# Altium schematic symbol library m-BLANC.SchLib: 48 symbols (part 1 of 2)
Pins are listed as number, name and electrical type; pins without a type are passive.

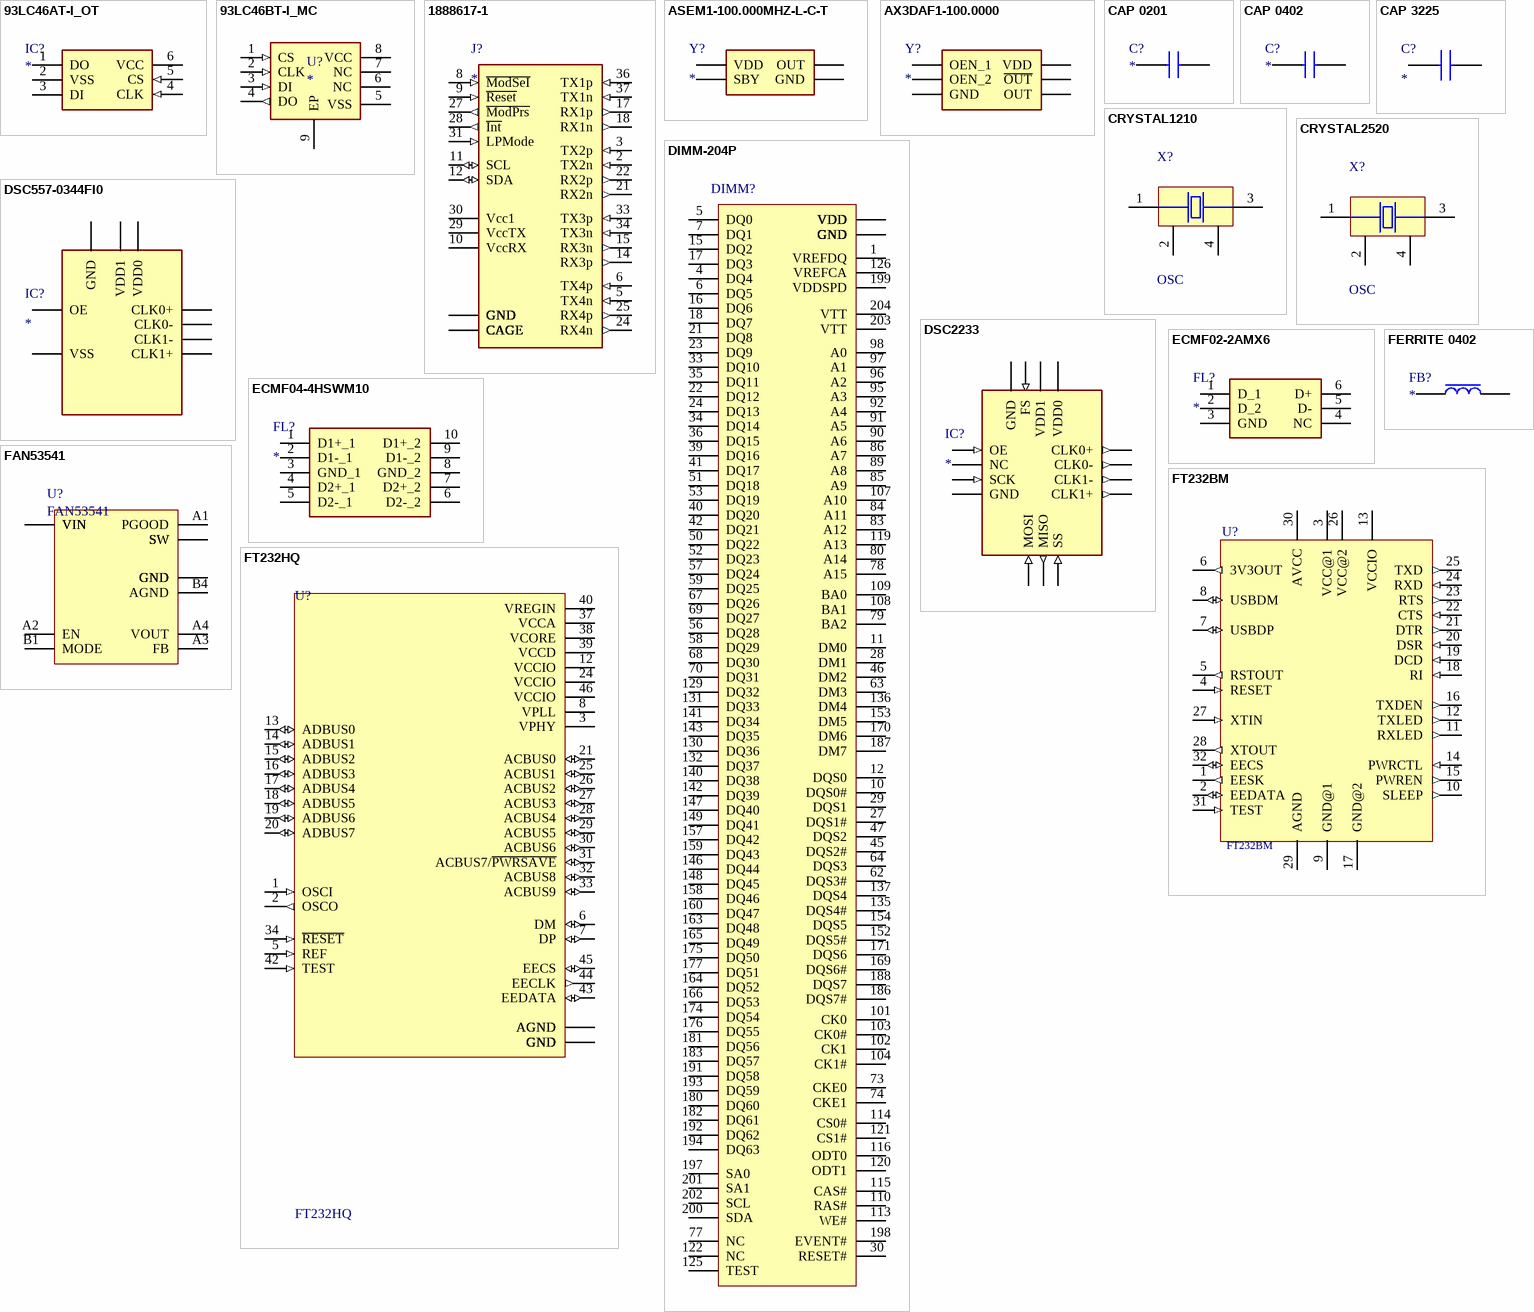
[diagram p0: symbols 93LC46AT-I_OT to FT232HQ]

## 93LC46AT-I_OT
designator IC?
Integrated Circuit; Manufacturer_Name: Microchip; Manufacturer_Part_Number: 93LC46AT-I/OT; Allied_Number: 70046004; Datasheet Link: http://ww1.microchip.com/downloads/en/DeviceDoc/20001749K.pdf; Height: 1.45mm; Mouser Part Number: 579-93LC46AT-I/OT; Mouser Price/Stock: https://www.mouser.com/Search/Refine.aspx?Keyword=579-93LC46AT-I%2FOT; RS Part Number: 6878862; RS Price/Stock: https://uk.rs-online.com/web/p/products/6878862; Allied Price/Stock: http://www.alliedelec.com/microchip-technology-inc-93lc46at-i-ot/70046004/
footprint SOT95P270X145-6N
pins: 1 DO, 2 VSS (power), 3 DI, 4 CLK (in), 5 CS (in), 6 VCC (power)

## 93LC46BT-I_MC
designator U?
footprint *SON50P200X300X100-9N
pins: 1 CS (in), 2 CLK (in), 3 DI (in), 4 DO (out), 5 VSS (power), 6 NC, 7 NC, 8 VCC (power), 9 EP (power)

## 1888617-1
designator J?
Connector; Manufacturer_Name: TE Connectivity; Manufacturer_Part_Number: 1888617-1; Datasheet Link: https://www.mouser.com/datasheet/2/418/NG_CS_1773408-1_Pluggable_IXO_Solutions_-_QSFP_061-1244175.pdf; Height: 9.7mm; Arrow Part Number: 1888617-1; Arrow Price/Stock: https://www.arrow.com/en/products/1888617-1/te-connectivity; Mouser Part Number: 571-1888617-1; Mouser Price/Stock: https://www.mouser.com/Search/Refine.aspx?Keyword=571-1888617-1
footprint 18886171
pins: 1 GND (power), 2 TX2n (in), 3 TX2p (in), 4 GND (power), 5 TX4n (in), 6 TX4p (in), 7 GND (power), 8 ~{ModSeI} (in), 9 ~{Reset} (in), 10 VccRX (power), 11 SCL (io), 12 SDA (io), 13 GND (power), 14 RX3p (out), 15 RX3n (out), 16 GND (power), 17 RX1p (out), 18 RX1n (out), 19 GND (power), 20 GND (power), 21 RX2n (out), 22 RX2p (out), 23 GND (power), 24 RX4n (out), 25 RX4p (out), 26 GND (power), 27 ~{ModPrs} (out), 28 ~{Int} (out), 29 VccTX (power), 30 Vcc1 (power), 31 LPMode (in), 32 GND (power), 33 TX3p (in), 34 TX3n (in), 35 GND (power), 36 TX1p (in), 37 TX1n (in), 38 GND (power), MH1 CAGE, MH2 CAGE, MH3 CAGE, MH4 CAGE, MH5 CAGE, MH6 CAGE, MH7 CAGE, MH8 CAGE, MH9 CAGE, MH10 CAGE, MH11 CAGE, MH12 CAGE, MH13 CAGE, MH14 CAGE

## ASEM1-100.000MHZ-L-C-T
designator Y?
Crystal or Oscillator; Manufacturer_Name: ABRACON; Manufacturer_Part_Number: ASEM1-100.000MHZ-L-C-T; Datasheet Link: https://eu.mouser.com/datasheet/2/3/ASEM-44258.pdf; Height: 0.9mm; Mouser Part Number: 815-ASEM1-100.0-LCT; Mouser Price/Stock: https://www.mouser.co.uk/ProductDetail/ABRACON/ASEM1-100000MHZ-L-C-T?qs=DmEoDMSjLQrIUu25gcXRZw%3D%3D
footprint ASEM1100000MHZLCT
pins: 1 SBY, 2 GND, 3 OUT, 4 VDD

## AX3DAF1-100.0000
designator Y?
Crystal or Oscillator; Manufacturer_Name: ABRACON; Manufacturer_Part_Number: AX3DAF1-100.0000; Datasheet Link: https://abracon.com/datasheets/AX3.pdf; Height: 1.1mm; Mouser Part Number: 815-AX3DAF1-100.0000; Mouser Price/Stock: https://www.mouser.com/Search/Refine.aspx?Keyword=815-AX3DAF1-100.0000; Arrow Part Number: AX3DAF1-100.0000; Arrow Price/Stock: https://www.arrow.com/en/products/ax3daf1-100.0000/abracon
footprint AX3DAF11000000
pins: 1 OEN_1, 2 OEN_2, 3 GND, 4 OUT, 5 ~{OUT}, 6 VDD

## CAP 0201
designator C?
Capacitor
footprint SMD0201
pins: 1, 2

## CAP 0402
designator C?
Capacitor
footprint SMD0402
pins: 1, 2

## CAP 3225
designator C?
Capacitor; Manufacturer_Name: TAIYO YUDEN; Manufacturer_Part_Number: JMK325ABJ107MM-P; Datasheet Link: https://ms.componentsearchengine.com/Datasheets/1/JMK325ABJ107MM-P.pdf; Height: 2.8mm; Arrow Part Number: JMK325ABJ107MM-P; Arrow Price/Stock: https://www.arrow.com/en/products/jmk325abj107mm-p/taiyo-yuden; Mouser Part Number: 963-JMK325ABJ107MM-P; Mouser Price/Stock: https://www.mouser.co.uk/ProductDetail/Taiyo-Yuden/JMK325ABJ107MM-P?qs=EPmvyOv1YlN%2FKJt%252BEENTYA%3D%3D
footprint CAPC3225X280N
pins: 1, 2

## CRYSTAL1210
designator X?, comment OSC
Crystal 1.2mm x 1.0mm
footprint CRYSTAL1210
pins: 1 X1, 2 GND, 3 X2, 4 GND

## CRYSTAL2520
designator X?, comment OSC
Crystal 2.5mm x 2.0mm
footprint CRYSTAL2520
pins: 1 X1, 2 GND, 3 X2, 4 GND

## DIMM-204P
designator DIMM?, comment DDR3  (value not drawn)
Kyocera 296409204003856+
footprint 296409204003856
pins: 1 VREFDQ, 2 GND, 3 GND, 4 DQ4, 5 DQ0, 6 DQ5, 7 DQ1, 8 GND, 9 GND, 10 DQS0#, 11 DM0, 12 DQS0, 13 GND, 14 GND, 15 DQ2, 16 DQ6, 17 DQ3, 18 DQ7, 19 GND, 20 GND, 21 DQ8, 22 DQ12, 23 DQ9, 24 DQ13, 25 GND, 26 GND, 27 DQS1#, 28 DM1, 29 DQS1, 30 RESET#, 31 GND, 32 GND, 33 DQ10, 34 DQ14, 35 DQ11, 36 DQ15, 37 GND, 38 GND, 39 DQ16, 40 DQ20, 41 DQ17, 42 DQ21, 43 GND, 44 GND, 45 DQS2#, 46 DM2, 47 DQS2, 48 GND, 49 GND, 50 DQ22, 51 DQ18, 52 DQ23, 53 DQ19, 54 GND, 55 GND, 56 DQ28, 57 DQ24, 58 DQ29, 59 DQ25, 60 GND, 61 GND, 62 DQS3#, 63 DM3, 64 DQS3, 65 GND, 66 GND, 67 DQ26, 68 DQ30, 69 DQ27, 70 DQ31, 71 GND, 72 GND, 73 CKE0, 74 CKE1, 75 VDD, 76 VDD, 77 NC, 78 A15, 79 BA2, 80 A14, 81 VDD, 82 VDD, 83 A12, 84 A11, 85 A9, 86 A7, 87 VDD, 88 VDD, 89 A8, 90 A6, 91 A5, 92 A4, 93 VDD, 94 VDD, 95 A3, 96 A2, 97 A1, 98 A0, 99 VDD, 100 VDD, 101 CK0, 102 CK1, 103 CK0#, 104 CK1#, 105 VDD, 106 VDD, 107 A10, 108 BA1, 109 BA0, 110 RAS#, 111 VDD, 112 VDD, 113 WE#, 114 CS0#, 115 CAS#, 116 ODT0, 117 VDD, 118 VDD, 119 A13, 120 ODT1, 121 CS1#, 122 NC, 123 VDD, 124 VDD, 125 TEST, 126 VREFCA, 127 GND, 128 GND, 129 DQ32, 130 DQ36, 131 DQ33, 132 DQ37, 133 GND, 134 GND, 135 DQS4#, 136 DM4, 137 DQS4, 138 GND, 139 GND, 140 DQ38, 141 DQ34, 142 DQ39, 143 DQ35, 144 GND, 145 GND, 146 DQ44, 147 DQ40, 148 DQ45, 149 DQ41, 150 GND, 151 GND, 152 DQS5#, 153 DM5, 154 DQS5, 155 GND, 156 GND, 157 DQ42, 158 DQ46, 159 DQ43, 160 DQ47, 161 GND, 162 GND, 163 DQ48, 164 DQ52, 165 DQ49, 166 DQ53, 167 GND, 168 GND, 169 DQS6#, 170 DM6, 171 DQS6, 172 GND, 173 GND, 174 DQ54, 175 DQ50, 176 DQ55, 177 DQ51, 178 GND, 179 GND, 180 DQ60, 181 DQ56, 182 DQ61, 183 DQ57, 184 GND, 185 GND, 186 DQS7#, 187 DM7, 188 DQS7, 189 GND, 190 GND, 191 DQ58, 192 DQ62, 193 DQ59, 194 DQ63, 195 GND, 196 GND, 197 SA0, 198 EVENT#, 199 VDDSPD, 200 SDA, 201 SA1, 202 SCL, 203 VTT, 204 VTT

## DSC557-0344FI0
designator IC?
Integrated Circuit; Manufacturer_Name: Microchip; Manufacturer_Part_Number: DSC557-0344FI0; Datasheet Link: http://ww1.microchip.com/downloads/en/devicedoc/dsc557-03%20datasheet%20mkqbpd12091701-2.pdf; Height: 0.9mm; Mouser Part Number: 998-DSC557-0344FI0; Mouser Price/Stock: https://www.mouser.com/Search/Refine.aspx?Keyword=998-DSC557-0344FI0; Arrow Part Number: DSC557-0344FI0; Arrow Price/Stock: https://www.arrow.com/en/products/dsc557-0344fi0/microchip-technology
footprint QFN50P250X320X90-15N
pins: 1 OE, 2 NC_1 hidden, 3 NC_2 hidden, 4 VSS, 5 NC_3 hidden, 6 NC_4 hidden, 7 NC_5 hidden, 8 CLK1+, 9 CLK1-, 10 CLK0-, 11 CLK0+, 12 VDD0, 13 VDD1, 14 NC_6 hidden, 15 GND

## DSC2233
designator IC?
Integrated Circuit; Manufacturer_Name: Microchip; Manufacturer_Part_Number: DSC557-0344FI0; Datasheet Link: http://ww1.microchip.com/downloads/en/devicedoc/dsc557-03%20datasheet%20mkqbpd12091701-2.pdf; Height: 0.9mm; Mouser Part Number: 998-DSC557-0344FI0; Mouser Price/Stock: https://www.mouser.com/Search/Refine.aspx?Keyword=998-DSC557-0344FI0; Arrow Part Number: DSC557-0344FI0; Arrow Price/Stock: https://www.arrow.com/en/products/dsc557-0344fi0/microchip-technology
footprint QFN50P250X320X90-15N
pins: 1 OE (in), 2 NC, 3 SCK (in), 4 GND (power), 5 MOSI (in), 6 MISO (out), 7 SS (in), 8 CLK1+ (out), 9 CLK1- (out), 10 CLK0- (out), 11 CLK0+ (out), 12 VDD0 (power), 13 VDD1 (power), 14 FS (in), 15 GND

## ECMF02-2AMX6
designator FL?
Integrated Circuit; Manufacturer_Name: STMicroelectronics; Manufacturer_Part_Number: ECMF02-2AMX6; Datasheet Link: http://www.st.com/content/ccc/resource/technical/document/datasheet/3a/28/cf/d0/31/63/48/8c/CD00282307.pdf/files/CD00282307.pdf/jcr:content/translations/en.CD00282307.pdf; Height: 0.55mm; Arrow Part Number: ECMF02-2AMX6; Arrow Price/Stock: https://www.arrow.com/en/products/ecmf02-2amx6/stmicroelectronics; Mouser Part Number: 511-ECMF02-2AMX6; Mouser Price/Stock: https://www.mouser.co.uk/ProductDetail/STMicroelectronics/ECMF02-2AMX6?qs=raAh8RbVwI65u5gmT42%2Flg%3D%3D
footprint SON50P150X170X55-6N-D
pins: 1 D_1, 2 D_2, 3 GND, 4 NC, 5 D-, 6 D+

## ECMF04-4HSWM10
designator FL?
Filter; Manufacturer_Name: STMicroelectronics; Manufacturer_Part_Number: ECMF04-4HSWM10; Datasheet Link: https://www.st.com/resource/en/datasheet/ecmf04-4hswm10.pdf; Height: 0.55mm; Arrow Part Number: ECMF04-4HSWM10; Arrow Price/Stock: https://www.arrow.com/en/products/ecmf04-4hswm10/stmicroelectronics; Mouser Part Number: 511-ECMF04-4HSWM10; Mouser Price/Stock: https://www.mouser.co.uk/ProductDetail/STMicroelectronics/ECMF04-4HSWM10?qs=9MuLHSklicqPUQRNi%252Bx1Sg%3D%3D
footprint SON50P135X260X55-10N-D
pins: 1 D1+_1, 2 D1-_1, 3 GND_1, 4 D2+_1, 5 D2-_1, 6 D2-_2, 7 D2+_2, 8 GND_2, 9 D1-_2, 10 D1+_2

## FAN53541
designator U?
footprint WLCSP20P4X5
pins: A1 PGOOD, A2 EN, A3 FB, A4 VOUT (power), B1 MODE, B2 GND (power), B3 GND (power), B4 AGND (power), C1 GND (power), C2 GND (power), C3 GND (power), C4 GND (power), D1 VIN (power), D2 VIN (power), D3 SW, D4 SW, E1 VIN (power), E2 VIN (power), E3 SW, E4 SW

## FERRITE 0402
designator FB?
Ferrite Bead
footprint SMD0402
pins: 1, 2

## FT232BM
designator U?  (value not drawn)
USB Interface IC Obsolete FT232BL; MF: FTDI; MP: FT232BM; Price: None; Package: None; Availability: Unavailable; SnapEDA_Link: https://www.snapeda.com/parts/FT232BM/FTDI/view-part/4222816/?ref=snap; Value: *
footprint *LQFP-32_7X7
pins: 1 EESK (out), 2 EEDATA (io), 3 VCC@1 (power), 4 RESET (in), 5 RSTOUT (out), 6 3V3OUT (out), 7 USBDP (io), 8 USBDM (io), 9 GND@1 (power), 10 SLEEP (out), 11 RXLED (out), 12 TXLED (out), 13 VCCIO (power), 14 PWRCTL (in), 15 PWREN (out), 16 TXDEN (out), 17 GND@2 (power), 18 RI (in), 19 DCD (in), 20 DSR (in), 21 DTR (out), 22 CTS (in), 23 RTS (out), 24 RXD (in), 25 TXD (out), 26 VCC@2 (power), 27 XTIN (in), 28 XTOUT (out), 29 AGND (power), 30 AVCC (power), 31 TEST (in), 32 EECS (io)

## FT232HQ
designator U?
USB Bridge, USB to UART,FIFO USB 2.0 UART, FIFO Interface 48-LQFP _7x7_; MF: FTDI, Future; MP: FT232HL; Price: None; Package: LQFP-48 FTDI; Availability: Unavailable; SnapEDA_Link: https://www.snapeda.com/parts/FT232HL/FTDI%2C%20Future%20Technology%20Devices%20International%20Ltd/view-part/380606/?ref=snap; Value: *
footprint *QFN50P700X700X90-49N
pins: 1 OSCI (in), 2 OSCO (out), 3 VPHY (power), 4 AGND (power), 5 REF (in), 6 DM (io), 7 DP (io), 8 VPLL (power), 9 AGND (power), 10 GND (power), 11 GND (power), 12 VCCIO (power), 13 ADBUS0 (io), 14 ADBUS1 (io), 15 ADBUS2 (io), 16 ADBUS3 (io), 17 ADBUS4 (io), 18 ADBUS5 (io), 19 ADBUS6 (io), 20 ADBUS7 (io), 21 ACBUS0 (io), 22 GND (power), 23 GND (power), 24 VCCIO (power), 25 ACBUS1 (io), 26 ACBUS2 (io), 27 ACBUS3 (io), 28 ACBUS4 (io), 29 ACBUS5 (io), 30 ACBUS6 (io), 31 ACBUS7/~{PWRSAVE} (io), 32 ACBUS8 (io), 33 ACBUS9 (io), 34 ~{RESET} (in), 35 GND (power), 36 GND (power), 37 VCCA (power), 38 VCORE (power), 39 VCCD (power), 40 VREGIN (power), 41 AGND (power), 42 TEST (in), 43 EEDATA (io), 44 EECLK (out), 45 EECS (io), 46 VCCIO (power), 47 GND (power), 48 GND (power), 49 GND

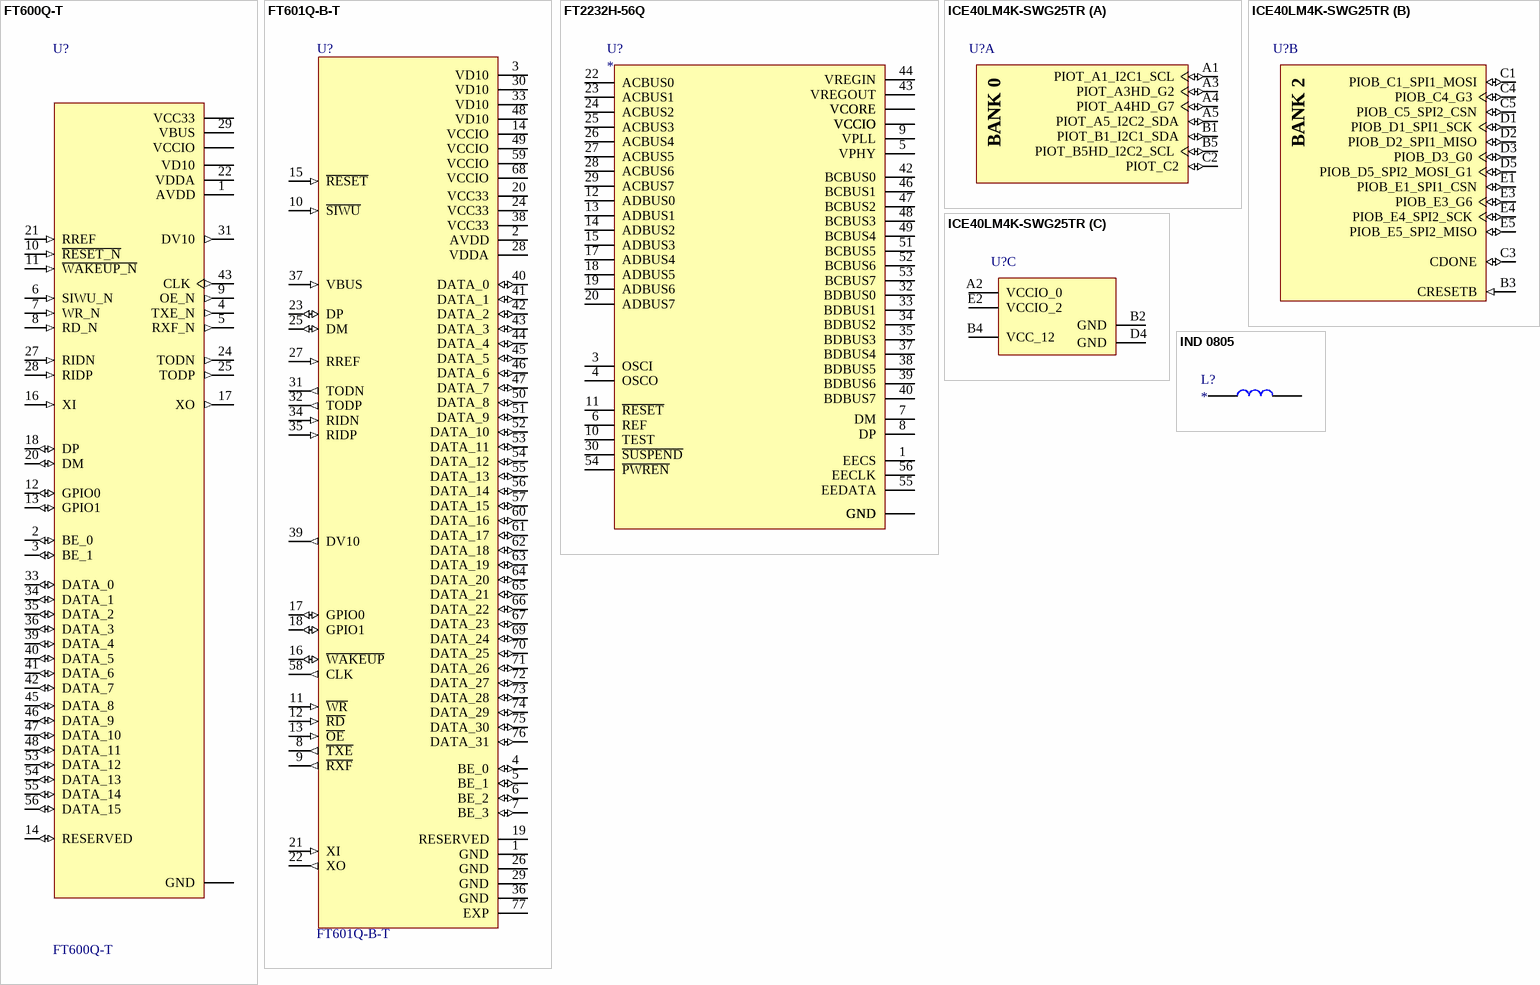
[diagram p1: symbols FT600Q-T to IND 0805]

## FT600Q-T
designator U?
USB Bridge, USB to FIFO USB 3.0 FIFO Interface 56-QFN _7x7_; MF: FTDI,; Package: QFN-56 FTDI; Price: None; Availability: Unavailable; MP: FT600Q-T; SnapEDA_Link: https://www.snapeda.com/parts/FT600Q-T/FTDI%2C%20Future%20Technology%20Devices%20International%20Ltd/view-part/449286/?ref=snap; Value: *
footprint *QFN40P700X700X85-57N
pins: 1 AVDD (power), 2 BE_0 (io), 3 BE_1 (io), 4 TXE_N (out), 5 RXF_N (out), 6 SIWU_N (in), 7 WR_N (in), 8 RD_N (in), 9 OE_N (out), 10 ~{RESET_N} (in), 11 ~{WAKEUP_N} (in), 12 GPIO0 (io), 13 GPIO1 (io), 14 RESERVED (io), 15 VCC33 (power), 16 XI (in), 17 XO (out), 18 DP (io), 19 VCC33 (power), 20 DM (io), 21 RREF (in), 22 VDDA (power), 23 VD10 (power), 24 TODN (out), 25 TODP (out), 26 VD10 (power), 27 RIDN (in), 28 RIDP (in), 29 VBUS (power), 30 VCC33 (power), 31 DV10 (out), 32 GND, 33 DATA_0 (io), 34 DATA_1 (io), 35 DATA_2 (io), 36 DATA_3 (io), 37 VD10 (power), 38 VCCIO (power), 39 DATA_4 (io), 40 DATA_5 (io), 41 DATA_6 (io), 42 DATA_7 (io), 43 CLK (out), 44 VCCIO (power), 45 DATA_8 (io), 46 DATA_9 (io), 47 DATA_10 (io), 48 DATA_11 (io), 49 GND, 50 VD10 (power), 51 GND, 52 VCCIO (power), 53 DATA_12 (io), 54 DATA_13 (io), 55 DATA_14 (io), 56 DATA_15 (io)

## FT601Q-B-T
designator U?
USB Bridge, USB to FIFO USB 3.0 FIFO Interface 76-QFN _9x9_; MF: FTDI, Future; Package: QFN-76 FTDI; Price: None; Availability: Unavailable; MP: FT601Q-B-T; SnapEDA_Link: https://www.snapeda.com/parts/FT601Q-B-T/FTDI%2C%20Future%20Technology%20Devices%20International%20Ltd/view-part/774389/?ref=snap; Value: *
footprint *QFN40P900X900X100-77N
pins: 1 GND (power), 2 AVDD (power), 3 VD10 (power), 4 BE_0 (io), 5 BE_1 (io), 6 BE_2 (io), 7 BE_3 (io), 8 ~{TXE} (out), 9 ~{RXF} (out), 10 ~{SIWU} (in), 11 ~{WR} (in), 12 ~{RD} (in), 13 ~{OE} (in), 14 VCCIO (power), 15 ~{RESET} (in), 16 ~{WAKEUP} (io), 17 GPIO0 (io), 18 GPIO1 (io), 19 RESERVED, 20 VCC33 (power), 21 XI (in), 22 XO (out), 23 DP (io), 24 VCC33 (power), 25 DM (io), 26 GND (power), 27 RREF (in), 28 VDDA (power), 29 GND (power), 30 VD10 (power), 31 TODN (out), 32 TODP (out), 33 VD10 (power), 34 RIDN (in), 35 RIDP (in), 36 GND (power), 37 VBUS (in), 38 VCC33 (power), 39 DV10 (out), 40 DATA_0 (io), 41 DATA_1 (io), 42 DATA_2 (io), 43 DATA_3 (io), 44 DATA_4 (io), 45 DATA_5 (io), 46 DATA_6 (io), 47 DATA_7 (io), 48 VD10 (power), 49 VCCIO (power), 50 DATA_8 (io), 51 DATA_9 (io), 52 DATA_10 (io), 53 DATA_11 (io), 54 DATA_12 (io), 55 DATA_13 (io), 56 DATA_14 (io), 57 DATA_15 (io), 58 CLK (out), 59 VCCIO (power), 60 DATA_16 (io), 61 DATA_17 (io), 62 DATA_18 (io), 63 DATA_19 (io), 64 DATA_20 (io), 65 DATA_21 (io), 66 DATA_22 (io), 67 DATA_23 (io), 68 VCCIO (power), 69 DATA_24 (io), 70 DATA_25 (io), 71 DATA_26 (io), 72 DATA_27 (io), 73 DATA_28 (io), 74 DATA_29 (io), 75 DATA_30 (io), 76 DATA_31 (io), 77 EXP (power)

## FT2232H-56Q
designator U?
Integrated Circuit
footprint QFN50P800X800X100-57N-D
pins: 1 EECS, 2 VCORE, 3 OSCI, 4 OSCO, 5 VPHY, 6 REF, 7 DM, 8 DP, 9 VPLL, 10 TEST, 11 ~{RESET}, 12 ADBUS0, 13 ADBUS1, 14 ADBUS2, 15 ADBUS3, 16 VCCIO, 17 ADBUS4, 18 ADBUS5, 19 ADBUS6, 20 ADBUS7, 21 GND, 22 ACBUS0, 23 ACBUS1, 24 ACBUS2, 25 ACBUS3, 26 ACBUS4, 27 ACBUS5, 28 ACBUS6, 29 ACBUS7, 30 ~{SUSPEND}, 31 VCORE, 32 BDBUS0, 33 BDBUS1, 34 BDBUS2, 35 BDBUS3, 36 VCCIO, 37 BDBUS4, 38 BDBUS5, 39 BDBUS6, 40 BDBUS7, 41 GND, 42 BCBUS0, 43 VREGOUT, 44 VREGIN, 45 GND, 46 BCBUS1, 47 BCBUS2, 48 BCBUS3, 49 BCBUS4, 50 VCCIO, 51 BCBUS5, 52 BCBUS6, 53 BCBUS7, 54 ~{PWREN}, 55 EEDATA, 56 EECLK, 57 GND

## ICE40LM4K-SWG25TR
designator U?
iCE40 LM4K Series FPGA Family, 3520 Logic Cells, 1.2 V Core, 80 K Embedded RAM Bits, 25-ball WLCSP, Pb-Free, Tape and Reel; Manufacturer: Lattice Semiconductor; PartNumber: ICE40LM4K-SWG25TR; 24mA Current Sink: 3; Embedded RAM Bits: 80K; High Frequency Strobe Generators: 1; I2C Cores: 2; Logic Cells: 3520; Supply Voltage: 1.2V; DatasheetVersion: Rev. 1.3; PackageVersion: Rev. 03.9, 02/2013; PackageReference: WLCSP-25; PackageDescription: 25-Ball Wafer-Level Chip Scale Package, Body 1.71 x 1.71 mm, Pitch 0.35 mm; Supplier 1: Digi-Key; Supplier Part Number 1: ICE40LM4K-SWG25TR-ND; Supplier 2: Mouser; Supplier Part Number 2: 842-ICE40LM4KSWG25TR; Low Power Strobe Generators: 1; Packing: Tape and Reel; Phase-Locked Loops: 1; RoHS: TRUE; SPI Cores: 2; Mounting Technology: Surface Mount; ComponentLink1Description: Manufacturer URL; ComponentLink1URL: http://www.latticesemi.com/en; ComponentLink2Description: Datasheet; ComponentLink2URL: http://www.latticesemi.com/~/media/Documents/DataSheets/iCE/DS1045.pdf; ComponentLink3Description: Package Specification; ComponentLink3URL: http://www.latticesemi.com/lit/docs/package/pkg.pdf
footprint LATC-WLCSP-25 (BGA, 25-Balls, Body 1.71x1.71mm, Pitch 0.35mm)
part A pins: A1 PIOT_A1_I2C1_SCL (io), A3 PIOT_A3HD_G2 (io), A4 PIOT_A4HD_G7 (io), A5 PIOT_A5_I2C2_SDA (io), B1 PIOT_B1_I2C1_SDA (io), B5 PIOT_B5HD_I2C2_SCL (io), C2 PIOT_C2 (io)
part B pins: B3 CRESETB (in) "Configuration Reset, active LOW. No internal pull-up resistor. Either actively driven externally or connect an 10K-ohm pull-up resistor to VCCIO_2.", C1 PIOB_C1_SPI1_MOSI (io), C3 CDONE (io) "Configuration Done. Includes a weak pull-up resistor to VCCIO_2.", C4 PIOB_C4_G3 (io), C5 PIOB_C5_SPI2_CSN (io), D1 PIOB_D1_SPI1_SCK (io), D2 PIOB_D2_SPI1_MISO (io), D3 PIOB_D3_G0 (io), D5 PIOB_D5_SPI2_MOSI_G1 (io), E1 PIOB_E1_SPI1_CSN (io), E3 PIOB_E3_G6 (io), E4 PIOB_E4_SPI2_SCK (io), E5 PIOB_E5_SPI2_MISO (io)
part C pins: A2 VCCIO_0 (power) "Power Supply for I/Os in Bank 0", B2 GND (power) "Ground", B4 VCC_12 (power) "Core Power Supply", D4 GND (power) "Ground", E2 VCCIO_2 (power) "Power Supply for I/Os in Bank 2"
part A text: BANK 0
part B text: BANK 2

## IND 0805
designator L?
Inductor
footprint SMD0805
pins: 1, 2

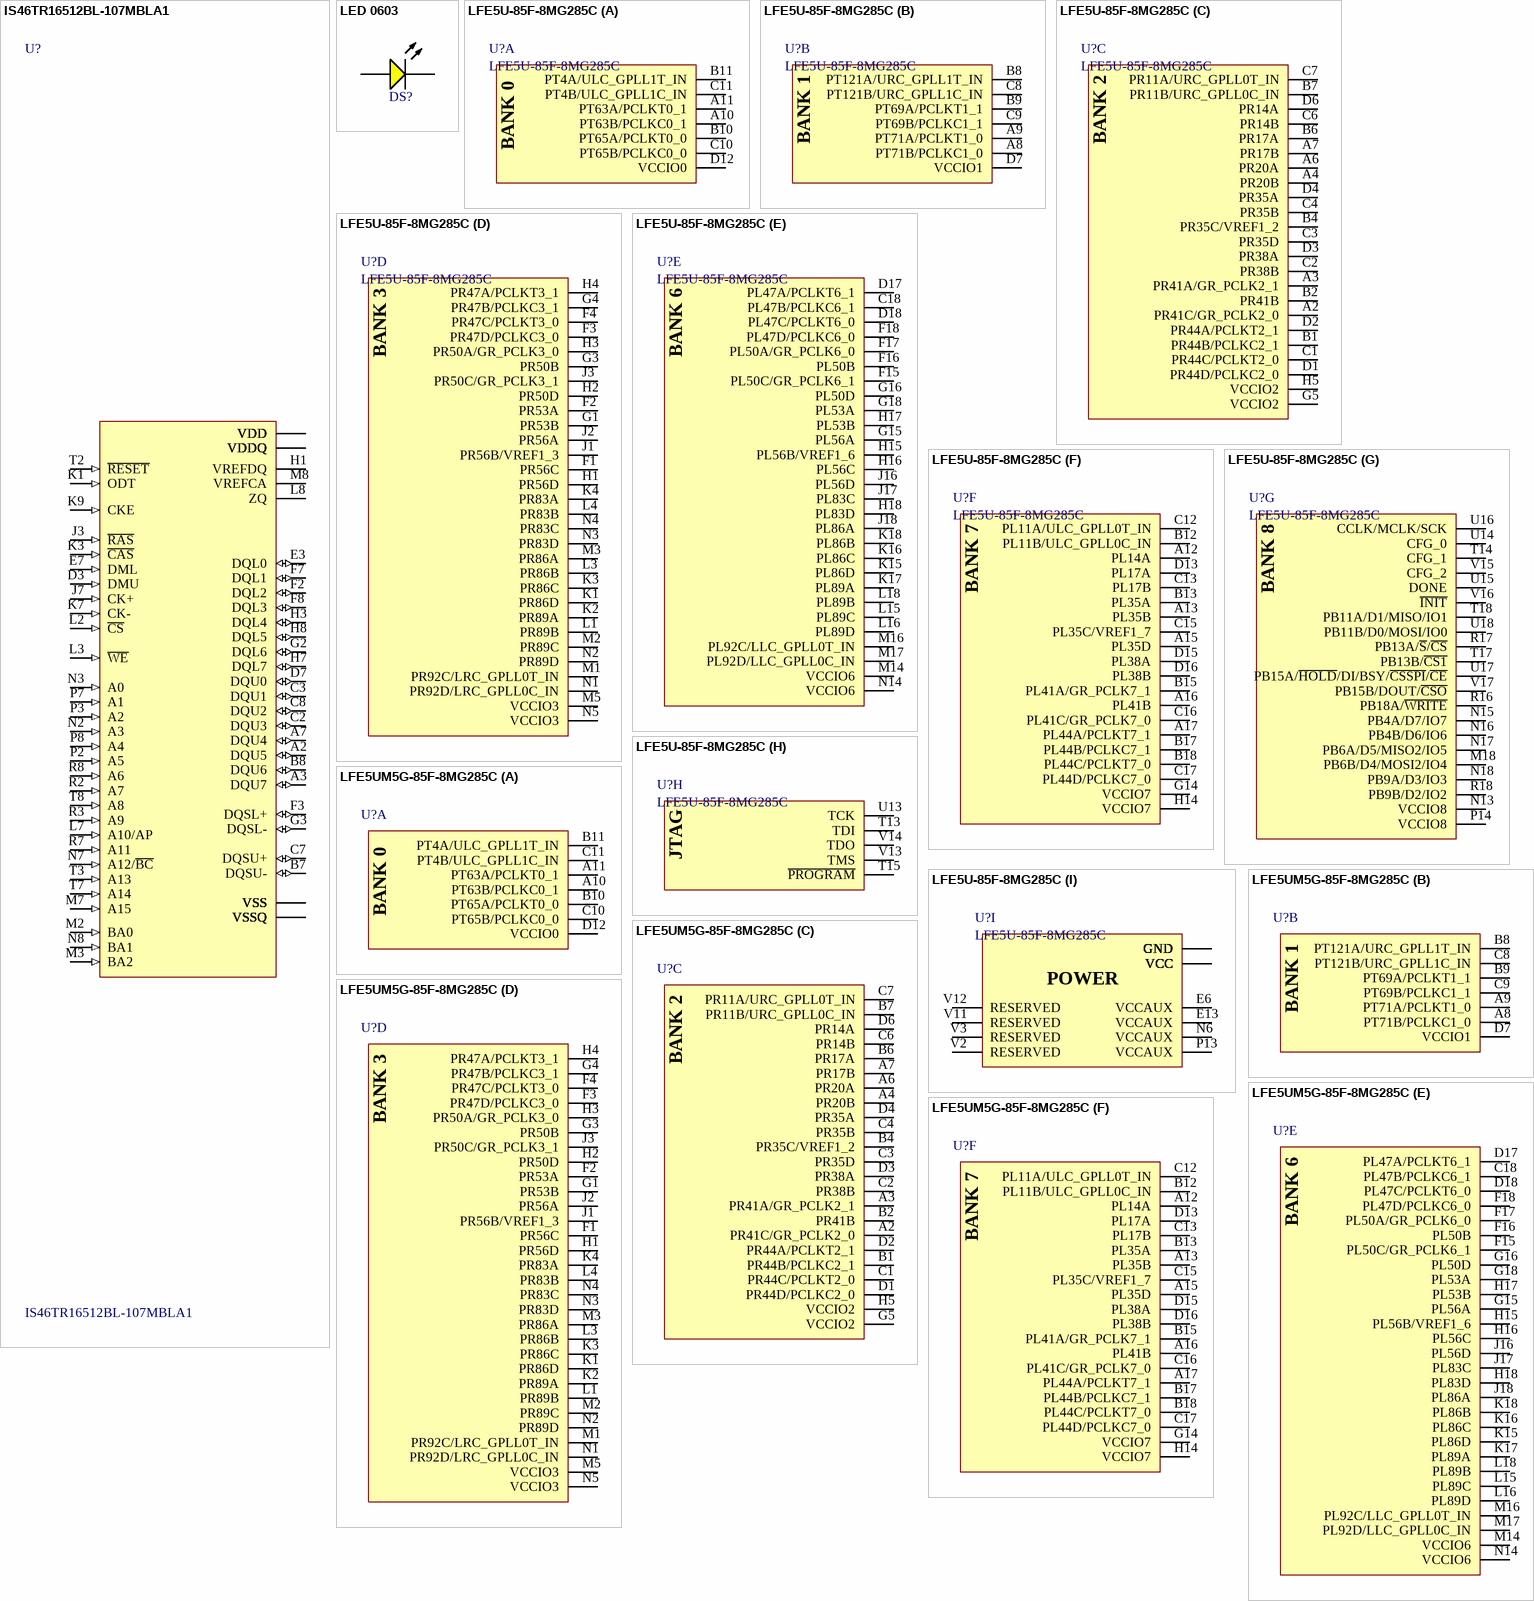
[diagram p2: symbols IS46TR16512BL-107MBLA1 to LFE5UM5G-85F-8MG285C]

## IS46TR16512BL-107MBLA1
designator U?
DRAM Chip DDR3L SDRAM 8G-Bit 512Mx16 1.35V 96-Pin LF-BGA; MF: ISSI, Integrated; MP: IS43TR16512AL-125KBL; Package: LFBGA-96 ISSI
footprint *BGA96C80P9X16_1000X1400X140N_IS43TR16512AL-125KBL(Primary)
pins: A1 VDDQ (power), A2 DQU5 (io), A3 DQU7 (io), A7 DQU4 (io), A8 VDDQ (power), A9 VSS (power), B1 VSSQ (power), B2 VDD (power), B3 VSS (power), B7 DQSU- (io), B8 DQU6 (io), B9 VSSQ (power), C1 VDDQ (power), C2 DQU3 (io), C3 DQU1 (io), C7 DQSU+ (io), C8 DQU2 (io), C9 VDDQ (power), D1 VSSQ (power), D2 VDDQ (power), D3 DMU (in), D7 DQU0 (io), D8 VSSQ (power), D9 VDD (power), E1 VSS (power), E2 VSSQ (power), E3 DQL0 (io), E7 DML (in), E8 VSSQ (power), E9 VDDQ (power), F1 VDDQ (power), F2 DQL2 (io), F3 DQSL+ (io), F7 DQL1 (io), F8 DQL3 (io), F9 VSSQ (power), G1 VSSQ (power), G2 DQL6 (io), G3 DQSL- (io), G7 VDD (power), G8 VSS (power), G9 VSSQ (power), H1 VREFDQ (power), H2 VDDQ (power), H3 DQL4 (io), H7 DQL7 (io), H8 DQL5 (io), H9 VDDQ (power), J1 NC hidden, J2 VSS (power), J3 ~{RAS} (in), J7 CK+ (in), J8 VSS (power), J9 NC hidden, K1 ODT (in), K2 VDD (power), K3 ~{CAS} (in), K7 CK- (in), K8 VDD (power), K9 CKE (in), L1 NC hidden, L2 ~{CS} (in), L3 ~{WE} (in), L7 A10/AP (in), L8 ZQ (power), L9 NC hidden, M1 VSS (power), M2 BA0 (in), M3 BA2 (in), M7 A15 (in), M8 VREFCA (power), M9 VSS (power), N1 VDD (power), N2 A3 (in), N3 A0 (in), N7 A12/~{BC} (in), N8 BA1 (in), N9 VDD (power), P1 VSS (power), P2 A5 (in), P3 A2 (in), P7 A1 (in), P8 A4 (in), P9 VSS (power), R1 VDD (power), R2 A7 (in), R3 A9 (in), R7 A11 (in), R8 A6 (in), R9 VDD (power), T1 VSS (power), T2 ~{RESET} (in), T3 A13 (in), T7 A14 (in), T8 A8 (in), T9 VSS (power)

## LED 0603
designator DS?  (value not drawn)
LED 0603 SMD
footprint LED0603
pins: 1 A, 2 K

## LFE5U-85F-8MG285C
designator U?
footprint *BGA285N50P18X18_1000X1000X130
part A pins: A10 PT63B/PCLKC0_1, A11 PT63A/PCLKT0_1, B10 PT65A/PCLKT0_0, B11 PT4A/ULC_GPLL1T_IN, C10 PT65B/PCLKC0_0, C11 PT4B/ULC_GPLL1C_IN, D12 VCCIO0 (power)
part B pins: A8 PT71B/PCLKC1_0, A9 PT71A/PCLKT1_0, B8 PT121A/URC_GPLL1T_IN, B9 PT69A/PCLKT1_1, C8 PT121B/URC_GPLL1C_IN, C9 PT69B/PCLKC1_1, D7 VCCIO1 (power)
part C pins: A2 PR41C/GR_PCLK2_0, A3 PR41A/GR_PCLK2_1, A4 PR20B, A6 PR20A, A7 PR17B, B1 PR44B/PCLKC2_1, B2 PR41B, B4 PR35C/VREF1_2, B6 PR17A, B7 PR11B/URC_GPLL0C_IN, C1 PR44C/PCLKT2_0, C2 PR38B, C3 PR35D, C4 PR35B, C6 PR14B, C7 PR11A/URC_GPLL0T_IN, D1 PR44D/PCLKC2_0, D2 PR44A/PCLKT2_1, D3 PR38A, D4 PR35A, D6 PR14A, G5 VCCIO2 (power), H5 VCCIO2 (power)
part D pins: F1 PR56C, F2 PR53A, F3 PR47D/PCLKC3_0, F4 PR47C/PCLKT3_0, G1 PR53B, G3 PR50B, G4 PR47B/PCLKC3_1, H1 PR56D, H2 PR50D, H3 PR50A/GR_PCLK3_0, H4 PR47A/PCLKT3_1, J1 PR56B/VREF1_3, J2 PR56A, J3 PR50C/GR_PCLK3_1, K1 PR86D, K2 PR89A, K3 PR86C, K4 PR83A, L1 PR89B, L3 PR86B, L4 PR83B, M1 PR92C/LRC_GPLL0T_IN, M2 PR89C, M3 PR86A, M5 VCCIO3 (power), N1 PR92D/LRC_GPLL0C_IN, N2 PR89D, N3 PR83D, N4 PR83C, N5 VCCIO3 (power)
part E pins: C18 PL47B/PCLKC6_1, D17 PL47A/PCLKT6_1, D18 PL47C/PCLKT6_0, F15 PL50C/GR_PCLK6_1, F16 PL50B, F17 PL50A/GR_PCLK6_0, F18 PL47D/PCLKC6_0, G15 PL56A, G16 PL50D, G18 PL53A, H15 PL56B/VREF1_6, H16 PL56C, H17 PL53B, H18 PL83D, J16 PL56D, J17 PL83C, J18 PL86A, K15 PL86D, K16 PL86C, K17 PL89A, K18 PL86B, L15 PL89C, L16 PL89D, L18 PL89B, M14 VCCIO6 (power), M16 PL92C/LLC_GPLL0T_IN, M17 PL92D/LLC_GPLL0C_IN, N14 VCCIO6 (power)
part F pins: A12 PL14A, A13 PL35B, A15 PL35D, A16 PL41B, A17 PL44A/PCLKT7_1, B12 PL11B/ULC_GPLL0C_IN, B13 PL35A, B15 PL41A/GR_PCLK7_1, B17 PL44B/PCLKC7_1, B18 PL44C/PCLKT7_0, C12 PL11A/ULC_GPLL0T_IN, C13 PL17B, C15 PL35C/VREF1_7, C16 PL41C/GR_PCLK7_0, C17 PL44D/PCLKC7_0, D13 PL17A, D15 PL38A, D16 PL38B, G14 VCCIO7 (power), H14 VCCIO7 (power)
part G pins: M18 PB6B/D4/MOSI2/IO4, N13 VCCIO8 (power), N15 PB4A/D7/IO7, N16 PB4B/D6/IO6, N17 PB6A/D5/MISO2/IO5, N18 PB9A/D3/IO3, P14 VCCIO8 (power), R16 PB18A/~{WRITE}, R17 PB13A/~{S}/~{CS}, R18 PB9B/D2/IO2, T14 CFG_1, T17 PB13B/~{CS1}, T18 PB11A/D1/MISO/IO1, U14 CFG_0, U15 DONE, U16 CCLK/MCLK/SCK, U17 PB15A/~{HOLD}/DI/BSY/~{CSSPI}/~{CE}, U18 PB11B/D0/MOSI/IO0, V15 CFG_2, V16 ~{INIT}, V17 PB15B/DOUT/~{CSO}
part H pins: T13 TDI, T15 ~{PROGRAM}, U13 TCK, V13 TMS, V14 TDO
part I pins: B3 GND (power), B16 GND (power), D8 VCC (power), D9 VCC (power), D10 VCC (power), D11 VCC (power), E5 GND (power), E6 VCCAUX (power), E7 GND (power), E8 GND (power), E9 GND (power), E10 GND (power), E11 GND (power), E12 GND (power), E13 VCCAUX (power), E14 GND (power), F5 GND (power), F6 GND (power), F7 GND (power), F8 GND (power), F9 GND (power), F10 GND (power), F11 GND (power), F12 GND (power), F13 GND (power), F14 GND (power), G2 GND (power), G6 GND (power), G7 GND (power), G8 GND (power), G9 GND (power), G10 GND (power), G11 GND (power), G12 GND (power), G13 GND (power), G17 GND (power), H6 GND (power), H7 GND (power), H8 GND (power), H9 GND (power), H10 GND (power), H11 GND (power), H12 GND (power), H13 GND (power), J4 VCC (power), J5 VCC (power), J6 GND (power), J7 GND (power), J8 GND (power), J9 GND (power), J10 GND (power), J11 GND (power), J12 GND (power), J13 GND (power), J14 VCC (power), J15 VCC (power), K5 GND (power), K6 GND (power), K7 GND (power), K8 GND (power), K9 GND (power), K10 GND (power), K11 GND (power), K12 GND (power), K13 GND (power), K14 GND (power), L2 GND (power), L5 GND (power), L6 GND (power), L7 GND (power), L8 GND (power), L9 GND (power), L10 GND (power), L11 GND (power), L12 GND (power), L13 GND (power), L14 GND (power), L17 GND (power), M4 VCC (power), M6 GND (power), M7 GND (power), M8 GND (power), M9 GND (power), M10 GND (power), M11 GND (power), M12 GND (power), M13 GND (power), M15 VCC (power), N6 VCCAUX (power), N7 GND (power), N8 GND (power), N9 GND (power), N10 GND (power), N11 GND (power), N12 GND (power), P5 GND (power), P6 GND (power), P7 VCC (power), P8 GND (power), P9 VCC (power), P10 GND (power), P11 VCC (power), P12 GND (power), P13 VCCAUX (power), R1 GND (power), R2 GND (power), R3 GND (power), R10 GND (power), T1 GND (power), T2 GND (power), T3 GND (power), T4 GND (power), T5 GND (power), T6 GND (power), T7 GND (power), T8 GND (power), T9 GND (power), T10 GND (power), T11 GND (power), T12 GND (power), T16 GND (power), U1 GND (power), U2 GND (power), U3 GND (power), U4 GND (power), U5 GND (power), U6 GND (power), U7 GND (power), U8 GND (power), U9 GND (power), U10 GND (power), U11 GND (power), U12 GND (power), V2 RESERVED, V3 RESERVED (power), V4 GND (power), V5 GND (power), V6 GND (power), V7 GND (power), V8 GND (power), V9 GND (power), V10 GND (power), V11 RESERVED (power), V12 RESERVED (power)
part A text: BANK 0
part B text: BANK 1
part C text: BANK 2
part D text: BANK 3
part E text: BANK 6
part F text: BANK 7
part G text: BANK 8
part H text: JTAG
part I text: POWER

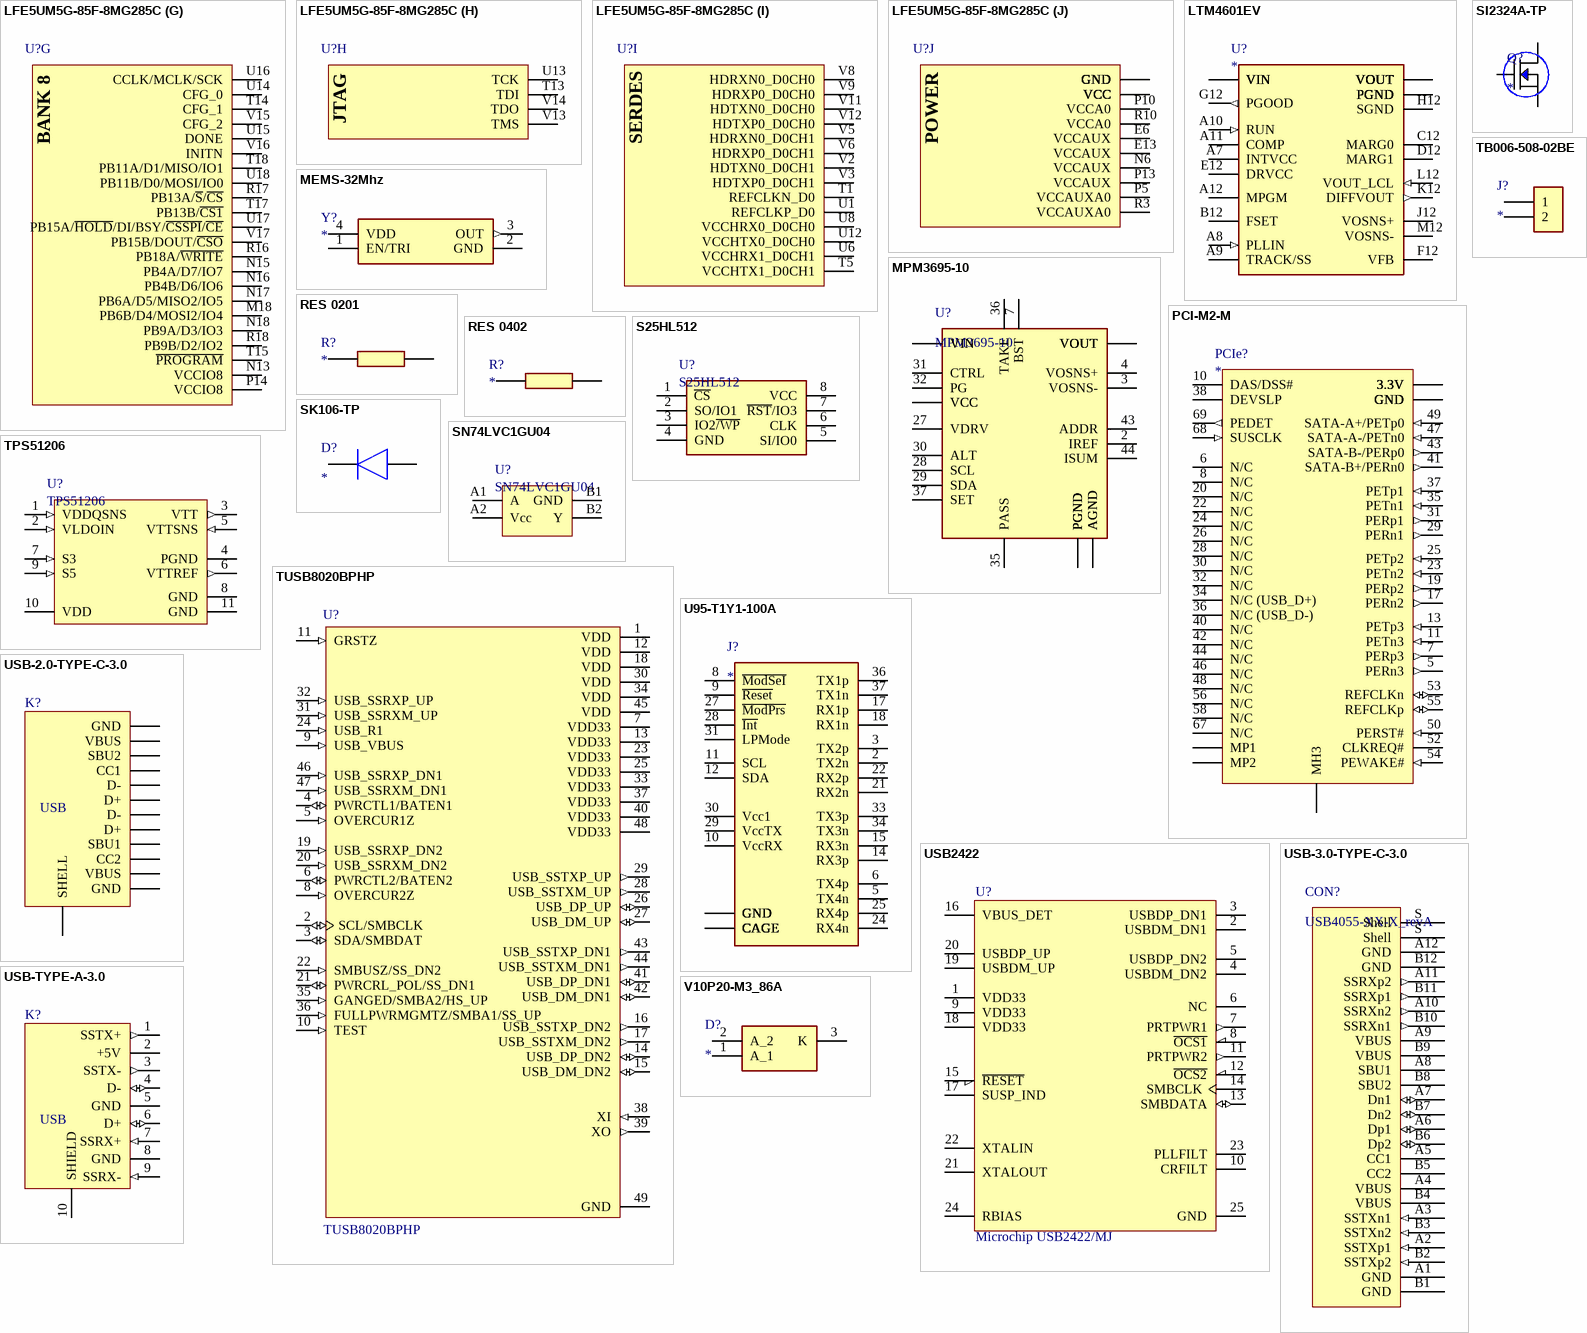
[diagram p3: symbols LFE5UM5G-85F-8MG285C to V10P20-M3_86A]

## LFE5UM5G-85F-8MG285C
designator U?  (value not drawn)
footprint *BGA285N50P18X18_1000X1000X130
part A pins: A10 PT63B/PCLKC0_1, A11 PT63A/PCLKT0_1, B10 PT65A/PCLKT0_0, B11 PT4A/ULC_GPLL1T_IN, C10 PT65B/PCLKC0_0, C11 PT4B/ULC_GPLL1C_IN, D12 VCCIO0 (power)
part B pins: A8 PT71B/PCLKC1_0, A9 PT71A/PCLKT1_0, B8 PT121A/URC_GPLL1T_IN, B9 PT69A/PCLKT1_1, C8 PT121B/URC_GPLL1C_IN, C9 PT69B/PCLKC1_1, D7 VCCIO1 (power)
part C pins: A2 PR41C/GR_PCLK2_0, A3 PR41A/GR_PCLK2_1, A4 PR20B, A6 PR20A, A7 PR17B, B1 PR44B/PCLKC2_1, B2 PR41B, B4 PR35C/VREF1_2, B6 PR17A, B7 PR11B/URC_GPLL0C_IN, C1 PR44C/PCLKT2_0, C2 PR38B, C3 PR35D, C4 PR35B, C6 PR14B, C7 PR11A/URC_GPLL0T_IN, D1 PR44D/PCLKC2_0, D2 PR44A/PCLKT2_1, D3 PR38A, D4 PR35A, D6 PR14A, G5 VCCIO2 (power), H5 VCCIO2 (power)
part D pins: F1 PR56C, F2 PR53A, F3 PR47D/PCLKC3_0, F4 PR47C/PCLKT3_0, G1 PR53B, G3 PR50B, G4 PR47B/PCLKC3_1, H1 PR56D, H2 PR50D, H3 PR50A/GR_PCLK3_0, H4 PR47A/PCLKT3_1, J1 PR56B/VREF1_3, J2 PR56A, J3 PR50C/GR_PCLK3_1, K1 PR86D, K2 PR89A, K3 PR86C, K4 PR83A, L1 PR89B, L3 PR86B, L4 PR83B, M1 PR92C/LRC_GPLL0T_IN, M2 PR89C, M3 PR86A, M5 VCCIO3 (power), N1 PR92D/LRC_GPLL0C_IN, N2 PR89D, N3 PR83D, N4 PR83C, N5 VCCIO3 (power)
part E pins: C18 PL47B/PCLKC6_1, D17 PL47A/PCLKT6_1, D18 PL47C/PCLKT6_0, F15 PL50C/GR_PCLK6_1, F16 PL50B, F17 PL50A/GR_PCLK6_0, F18 PL47D/PCLKC6_0, G15 PL56A, G16 PL50D, G18 PL53A, H15 PL56B/VREF1_6, H16 PL56C, H17 PL53B, H18 PL83D, J16 PL56D, J17 PL83C, J18 PL86A, K15 PL86D, K16 PL86C, K17 PL89A, K18 PL86B, L15 PL89C, L16 PL89D, L18 PL89B, M14 VCCIO6 (power), M16 PL92C/LLC_GPLL0T_IN, M17 PL92D/LLC_GPLL0C_IN, N14 VCCIO6 (power)
part F pins: A12 PL14A, A13 PL35B, A15 PL35D, A16 PL41B, A17 PL44A/PCLKT7_1, B12 PL11B/ULC_GPLL0C_IN, B13 PL35A, B15 PL41A/GR_PCLK7_1, B17 PL44B/PCLKC7_1, B18 PL44C/PCLKT7_0, C12 PL11A/ULC_GPLL0T_IN, C13 PL17B, C15 PL35C/VREF1_7, C16 PL41C/GR_PCLK7_0, C17 PL44D/PCLKC7_0, D13 PL17A, D15 PL38A, D16 PL38B, G14 VCCIO7 (power), H14 VCCIO7 (power)
part G pins: M18 PB6B/D4/MOSI2/IO4, N13 VCCIO8 (power), N15 PB4A/D7/IO7, N16 PB4B/D6/IO6, N17 PB6A/D5/MISO2/IO5, N18 PB9A/D3/IO3, P14 VCCIO8 (power), R16 PB18A/~{WRITE}, R17 PB13A/~{S}/~{CS}, R18 PB9B/D2/IO2, T14 CFG_1, T15 ~{PROGRAM}, T17 PB13B/~{CS1}, T18 PB11A/D1/MISO/IO1, U14 CFG_0, U15 DONE, U16 CCLK/MCLK/SCK, U17 PB15A/~{HOLD}/DI/BSY/~{CSSPI}/~{CE}, U18 PB11B/D0/MOSI/IO0, V15 CFG_2, V16 INITN, V17 PB15B/DOUT/~{CSO}
part H pins: T13 TDI, U13 TCK, V13 TMS, V14 TDO
part I pins: T1 REFCLKN_D0, T5 VCCHTX1_D0CH1 (power), U1 REFCLKP_D0, U6 VCCHRX1_D0CH1 (power), U8 VCCHRX0_D0CH0 (power), U12 VCCHTX0_D0CH0 (power), V2 HDTXN0_D0CH1, V3 HDTXP0_D0CH1, V5 HDRXN0_D0CH1, V6 HDRXP0_D0CH1, V8 HDRXN0_D0CH0, V9 HDRXP0_D0CH0, V11 HDTXN0_D0CH0, V12 HDTXP0_D0CH0
part J pins: B3 GND (power), B16 GND (power), D8 VCC (power), D9 VCC (power), D10 VCC (power), D11 VCC (power), E5 GND (power), E6 VCCAUX (power), E7 GND (power), E8 GND (power), E9 GND (power), E10 GND (power), E11 GND (power), E12 GND (power), E13 VCCAUX (power), E14 GND (power), F5 GND (power), F6 GND (power), F7 GND (power), F8 GND (power), F9 GND (power), F10 GND (power), F11 GND (power), F12 GND (power), F13 GND (power), F14 GND (power), G2 GND (power), G6 GND (power), G7 GND (power), G8 GND (power), G9 GND (power), G10 GND (power), G11 GND (power), G12 GND (power), G13 GND (power), G17 GND (power), H6 GND (power), H7 GND (power), H8 GND (power), H9 GND (power), H10 GND (power), H11 GND (power), H12 GND (power), H13 GND (power), J4 VCC (power), J5 VCC (power), J6 GND (power), J7 GND (power), J8 GND (power), J9 GND (power), J10 GND (power), J11 GND (power), J12 GND (power), J13 GND (power), J14 VCC (power), J15 VCC (power), K5 GND (power), K6 GND (power), K7 GND (power), K8 GND (power), K9 GND (power), K10 GND (power), K11 GND (power), K12 GND (power), K13 GND (power), K14 GND (power), L2 GND (power), L5 GND (power), L6 GND (power), L7 GND (power), L8 GND (power), L9 GND (power), L10 GND (power), L11 GND (power), L12 GND (power), L13 GND (power), L14 GND (power), L17 GND (power), M4 VCC (power), M6 GND (power), M7 GND (power), M8 GND (power), M9 GND (power), M10 GND (power), M11 GND (power), M12 GND (power), M13 GND (power), M15 VCC (power), N6 VCCAUX (power), N7 GND (power), N8 GND (power), N9 GND (power), N10 GND (power), N11 GND (power), N12 GND (power), P5 VCCAUXA0 (power), P6 GND (power), P7 VCC (power), P8 GND (power), P9 VCC (power), P10 VCCA0 (power), P11 VCC (power), P12 GND (power), P13 VCCAUX (power), R1 GND (power), R2 GND (power), R3 VCCAUXA0 (power), R10 VCCA0 (power), T2 GND (power), T3 GND (power), T4 GND (power), T6 GND (power), T7 GND (power), T8 GND (power), T9 GND (power), T10 GND (power), T11 GND (power), T12 GND (power), T16 GND (power), U2 GND, U3 GND (power), U4 GND (power), U5 GND (power), U7 GND (power), U9 GND (power), U10 GND (power), U11 GND (power), V4 GND (power), V7 GND (power), V10 GND (power)
part A text: BANK 0
part B text: BANK 1
part C text: BANK 2
part D text: BANK 3
part E text: BANK 6
part F text: BANK 7
part G text: BANK 8
part H text: JTAG
part I text: SERDES
part J text: POWER

## LTM4601EV
designator U?
Integrated Circuit; Manufacturer_Name: Linear Technology; Manufacturer_Part_Number: LTM4601EV#PBF; Datasheet Link: http://cds.linear.com/docs/en/datasheet/4601fe.pdf; Height: 2.92mm
footprint LGA118S127P12X12_1500X1500X292
pins: A1 VIN (power), A2 VIN (power), A3 VIN (power), A4 VIN (power), A5 VIN (power), A6 VIN (power), A7 INTVCC (power), A8 PLLIN (in), A9 TRACK/SS, A10 RUN (in), A11 COMP, A12 MPGM, B1 VIN (power), B2 VIN (power), B3 VIN (power), B4 VIN (power), B5 VIN (power), B6 VIN (power), B12 FSET, C1 VIN (power), C2 VIN (power), C3 VIN (power), C4 VIN (power), C5 VIN (power), C6 VIN (power), C12 MARG0, D1 PGND (power), D2 PGND (power), D3 PGND (power), D4 PGND (power), D5 PGND (power), D6 PGND (power), D12 MARG1, E1 PGND (power), E2 PGND (power), E3 PGND (power), E4 PGND (power), E5 PGND (power), E6 PGND (power), E7 PGND (power), E12 DRVCC (power), F1 PGND (power), F2 PGND (power), F3 PGND (power), F4 PGND (power), F5 PGND (power), F6 PGND (power), F7 PGND (power), F8 PGND (power), F9 PGND (power), F12 VFB, G1 PGND (power), G2 PGND (power), G3 PGND (power), G4 PGND (power), G5 PGND (power), G6 PGND (power), G7 PGND (power), G8 PGND (power), G9 PGND (power), G12 PGOOD (out), H1 PGND (power), H2 PGND (power), H3 PGND (power), H4 PGND (power), H5 PGND (power), H6 PGND (power), H7 PGND (power), H8 PGND (power), H9 PGND (power), H12 SGND (power), J1 VOUT (power), J2 VOUT (power), J3 VOUT (power), J4 VOUT (power), J5 VOUT (power), J6 VOUT (power), J7 VOUT (power), J8 VOUT (power), J9 VOUT (power), J10 VOUT (power), J12 VOSNS+, K1 VOUT (power), K2 VOUT (power), K3 VOUT (power), K4 VOUT (power), K5 VOUT (power), K6 VOUT (power), K7 VOUT (power), K8 VOUT (power), K9 VOUT (power), K10 VOUT (power), K11 VOUT (power), K12 DIFFVOUT (out), L1 VOUT (power), L2 VOUT (power), L3 VOUT (power), L4 VOUT (power), L5 VOUT (power), L6 VOUT (power), L7 VOUT (power), L8 VOUT (power), L9 VOUT (power), L10 VOUT (power), L11 VOUT (power), L12 VOUT_LCL (in), M1 VOUT (power), M2 VOUT (power), M3 VOUT (power), M4 VOUT (power), M5 VOUT (power), M6 VOUT (power), M7 VOUT (power), M8 VOUT (power), M9 VOUT (power), M10 VOUT (power), M11 VOUT (power), M12 VOSNS-

## MEMS-32Mhz
designator Y?
Crystal or Oscillator
footprint TY
pins: 1 EN/TRI, 2 GND, 3 OUT (out), 4 VDD

## MPM3695-10
designator U?
16V, 10A, Scalable, Ultra-Thin DC/DC Power Module with PMBus
footprint QFN45-MPM3695-10
pins: 1 AGND, 2 IREF, 3 VOSNS-, 4 VOSNS+, 5 AGND, 6 VCC, 7 BST, 8 TP hidden, 9 VOUT, 10 VOUT, 11 VOUT, 12 VOUT, 13 VOUT, 14 VOUT, 15 VOUT, 16 N/C hidden, 17 N/C hidden, 18 N/C hidden, 19 PGND, 20 PGND, 21 PGND, 22 PGND, 23 PGND, 24 PGND, 25 PGND, 26 VCC, 27 VDRV, 28 SCL, 29 SDA, 30 ALT, 31 CTRL, 32 PG, 33 N/C hidden, 34 N/C hidden, 35 PASS, 36 TAKE, 37 SET, 38 PGND, 39 PGND, 40 VIN, 41 VIN, 42 N/C hidden, 43 ADDR, 44 ISUM, 45 AGND

## PCI-M2-M
designator PCIe?
M.2 Key M Socket 3; Manufacturer_Name: Amphenol; Manufacturer_Part_Number: MDT275M02001; Datasheet Link: https://www.mouser.com/datasheet/2/18/Amphenol_CMDTXXXXXX001-4-1157232.pdf; Height: 2.75mm
footprint PCIE-M2-M
pins: 1 GND (power) "Ground", 2 3.3V "Supply pin", 3 GND (power) "Ground", 4 3.3V "Supply pin", 5 PERn3 (out) "PCIe Lane 3 Rx", 6 N/C, 7 PERp3 (out) "PCIe Lane 3 Rx", 8 N/C, 9 GND (power) "Ground", 10 DAS/DSS# "Device Activity Signal / Disable Staggered Spinup", 11 PETn3 (in) "PCIe Lane 3 Tx", 12 3.3V "Supply pin", 13 PETp3 (in) "PCIe Lane 3 Tx", 14 3.3V "Supply pin", 15 GND (power) "Ground", 16 3.3V "Supply pin", 17 PERn2 (out) "PCIe Lane 2 Rx", 18 3.3V "Supply pin", 19 PERp2 (out) "PCIe Lane 2 Rx", 20 N/C, 21 GND (power) "Ground", 22 N/C, 23 PETn2 (in) "PCIe Lane 2 Tx", 24 N/C, 25 PETp2 (in) "PCIe Lane 2 Tx", 26 N/C, 27 GND (power) "Ground", 28 N/C, 29 PERn1 (out) "PCIe Lane 1 Rx", 30 N/C, 31 PERp1 (out) "PCIe Lane 1 Rx", 32 N/C, 33 GND (power) "Ground", 34 N/C (USB_D+), 35 PETn1 (in) "PCIe Lane 1 Tx", 36 N/C (USB_D-), 37 PETp1 (in) "PCIe Lane 1 Tx", 38 DEVSLP "Device Sleep", 39 GND (power) "Ground", 40 N/C, 41 SATA-B+/PERn0 (out) "Host receiver differential signal pair. If in PCIe mode PCIe Lane 0 Rx", 42 N/C, 43 SATA-B-/PERp0 (out) "Host receiver differential signal pair. If in PCIe mode PCIe Lane 0 Rx", 44 N/C, 45 GND (power) "Ground", 46 N/C, 47 SATA-A-/PETn0 (in) "Host transmitter differential signal pair. If in PCIe mode PCIe Lane 0 Tx", 48 N/C, 49 SATA-A+/PETp0 (in) "Host transmitter differential signal pair. If in PCIe mode PCIe Lane 0 Tx", 50 PERST# (in) "PCIe reset", 51 GND (power) "Ground", 52 CLKREQ# "Reference clock request signal", 53 REFCLKn (io) "PCIe Reference Clock signals (100 MHz)", 54 PEWAKE# (in) "PCIe WAKE# Open Drain with pull up on platform. Active Low.", 55 REFCLKp (io) "PCIe Reference Clock signals (100 MHz)", 56 N/C, 57 GND (power) "Ground", 58 N/C, 67 N/C, 68 SUSCLK (in) "32.768 kHz clock supply input provided by the Platform chipset", 69 PEDET (out) "NC-PCIe/GND-SATA", 70 3.3V "Supply pin", 71 GND (power) "Ground", 72 3.3V "Supply pin", 73 GND (power) "Ground", 74 3.3V "Supply pin", 75 GND (power) "Ground", MH3, MP1, MP2

## RES 0201
designator R?
Resistor
footprint SMD0201
pins: 1, 2

## RES 0402
designator R?
Resistor
footprint SMD0402
pins: 1, 2

## S25HL512
designator U?
512Mbit 3.3V Uniform Sector Dual and Quad Serial Flash
footprint SON127P800X600X80-9N-D
pins: 1 ~{CS}, 2 SO/IO1, 3 IO2~{/WP}, 4 GND, 5 SI/IO0, 6 CLK, 7 ~{RST}/IO3, 8 VCC

## SI2324A-TP
designator Q?
MOSFET (N-Channel); Manufacturer_Name: Micro Commercial Components (MCC); Manufacturer_Part_Number: SI2324A-TP; Datasheet Link: https://www.mccsemi.com/pdf/Products/SI2324A(SOT-23)-A.pdf; Mouser Part Number: 833-SI2324A-TP; Mouser Price/Stock: https://www.mouser.com/Search/Refine.aspx?Keyword=833-SI2324A-TP; Arrow Part Number: SI2324A-TP; Arrow Price/Stock: https://www.arrow.com/en/products/si2324a-tp/micro-commercial-components
footprint SI2305TP
pins: 1 G, 2 S, 3 D

## SK106-TP
designator D?
Diode; Manufacturer_Name: Micro Commercial Components (MCC); Manufacturer_Part_Number: SK106-TP; Datasheet Link: http://www.mccsemi.com/up_pdf/SK102-SK1010(HSMC).PDF; Height: 5.43mm; Mouser Part Number: 833-SK106-TP; Mouser Price/Stock: https://www.mouser.co.uk/ProductDetail/Micro-Commercial-Components-MCC/SK106-TP?qs=SdqRYZZ9IxAPDINIgRyYqg%3D%3D; Arrow Part Number: SK106-TP; Arrow Price/Stock: https://www.arrow.com/en/products/sk106-tp/micro-commercial-components
footprint DIOM8060X543N
pins: 1 K, 2 A

## SN74LVC1GU04
designator U?
Single Inverter Gate
footprint *BGA4C65P2X2_160X140X35N
pins: A1 A, A2 Vcc, B1 GND, B2 Y

## TB006-508-02BE
designator J?
Connector; Manufacturer_Name: CUI Devices; Manufacturer_Part_Number: TB006-508-02BE; Datasheet Link: https://www.mouser.com/datasheet/2/670/tb006-508-1550645.pdf; Height: 10.4mm; Mouser Part Number: 490-TB006-508-02BE; Mouser Price/Stock: https://www.mouser.co.uk/ProductDetail/CUI-Devices/TB006-508-02BE/?qs=vLWxofP3U2wEdOVV%2FaT04w%3D%3D; Arrow Part Number: TB006-508-02BE; Arrow Price/Stock: https://www.arrow.com/en/products/tb006-508-02be/cui-devices
footprint TB00650802BE
pins: 1, 2

## TPS51206
designator U?
footprint SON40P200X200X80-11N
pins: 1 VDDQSNS (in), 2 VLDOIN (in), 3 VTT (out), 4 PGND (power), 5 VTTSNS (in), 6 VTTREF (out), 7 S3 (in), 8 GND (power), 9 S5 (in), 10 VDD (power), 11 GND

## TUSB8020BPHP
designator U?
Full Speed/High Speed/Super Speed Two Port USB 3.0 Hub USB 3.0 1.1V/3.3V Tube 48-Pin HTQFP EP; MF: Texas Instruments; Price: None; Availability: Unavailable; Package: HTQFP-48 Texas Instruments; MP: TUSB8020BPHP; SnapEDA_Link: https://www.snapeda.com/parts/TUSB8020BPHP/Texas%20Instruments/view-part/49088/?ref=snap; Value: *
footprint *QFP50P900X900X120-49N
pins: 1 VDD (power), 2 SCL/SMBCLK (io), 3 SDA/SMBDAT (io), 4 PWRCTL1/BATEN1 (io), 5 OVERCUR1Z (in), 6 PWRCTL2/BATEN2 (io), 7 VDD33 (power), 8 OVERCUR2Z (in), 9 USB_VBUS (in), 10 TEST (in), 11 GRSTZ (in), 12 VDD (power), 13 VDD33 (power), 14 USB_DP_DN2 (io), 15 USB_DM_DN2 (io), 16 USB_SSTXP_DN2 (out), 17 USB_SSTXM_DN2 (out), 18 VDD (power), 19 USB_SSRXP_DN2 (in), 20 USB_SSRXM_DN2 (in), 21 PWRCRL_POL/SS_DN1 (io), 22 SMBUSZ/SS_DN2 (in), 23 VDD33 (power), 24 USB_R1 (in), 25 VDD33 (power), 26 USB_DP_UP (io), 27 USB_DM_UP (io), 28 USB_SSTXM_UP (out), 29 USB_SSTXP_UP (out), 30 VDD (power), 31 USB_SSRXM_UP (in), 32 USB_SSRXP_UP (in), 33 VDD33 (power), 34 VDD (power), 35 GANGED/SMBA2/HS_UP (in), 36 FULLPWRMGMTZ/SMBA1/SS_UP (in), 37 VDD33 (power), 38 XI (in), 39 XO (out), 40 VDD33 (power), 41 USB_DP_DN1 (io), 42 USB_DM_DN1 (io), 43 USB_SSTXP_DN1 (out), 44 USB_SSTXM_DN1 (out), 45 VDD (power), 46 USB_SSRXP_DN1 (in), 47 USB_SSRXM_DN1 (in), 48 VDD33 (power), 49 GND (power)

## U95-T1Y1-100A
designator J?
Connector; Manufacturer_Name: Amphenol; Manufacturer_Part_Number: U95-T1Y1-100A; Datasheet Link: https://componentsearchengine.com/Datasheets/1/U95-T1Y1-100A.pdf; Height: 15.69mm; Arrow Part Number: U95-T1Y1-100A; Arrow Price/Stock: https://www.arrow.com/en/products/u95-t1y1-100a/amphenol; Mouser Part Number: 523-U95-T1Y1-100A; Mouser Price/Stock: https://www.mouser.co.uk/ProductDetail/Amphenol-Commercial-Products/U95-T1Y1-100A?qs=mip%2Fk2qjOHrPM4qHC5nqJQ%3D%3D
footprint U95T1Y1100A
pins: 1 GND, 2 TX2n, 3 TX2p, 4 GND, 5 TX4n, 6 TX4p, 7 GND, 8 ~{ModSeI}, 9 ~{Reset}, 10 VccRX, 11 SCL, 12 SDA, 13 GND, 14 RX3p, 15 RX3n, 16 GND, 17 RX1p, 18 RX1n, 19 GND, 20 GND, 21 RX2n, 22 RX2p, 23 GND, 24 RX4n, 25 RX4p, 26 GND, 27 ~{ModPrs}, 28 ~{Int}, 29 VccTX, 30 Vcc1, 31 LPMode, 32 GND, 33 TX3p, 34 TX3n, 35 GND, 36 TX1p, 37 TX1n, 38 GND, 39 CAGE, 40 CAGE, 41 CAGE, 42 CAGE, 43 CAGE, 44 CAGE, 45 CAGE, 46 CAGE, 47 CAGE, 48 CAGE, 49 CAGE, 50 CAGE, 51 CAGE, 52 CAGE, 53 CAGE, 54 CAGE, 55 CAGE, 56 CAGE, 57 CAGE, 58 CAGE, 59 CAGE, 60 CAGE, 61 CAGE, 62 CAGE, MH1, MH2

## USB2422
designator U?, comment Microchip USB2422/MJ
Microchip Technology USB2422/MJ, USB Controller, USB 2.0, 3.3 V, 24-Pin SQFN; Operating Temperature: 0.00 °C (min); Packaging: Tray
footprint QFN-MJ24 (QFN, 24-Leads, Body 4x4mm, Pitch 0.5mm, Microchip Recommended)
pins: 1 VDD33 (power), 2 USBDM_DN1, 3 USBDP_DN1, 4 USBDM_DN2, 5 USBDP_DN2, 6 NC, 7 PRTPWR1 (out), 8 ~{OCS1}, 9 VDD33 (power), 10 CRFILT, 11 PRTPWR2 (out), 12 ~{OCS2}, 13 SMBDATA (io), 14 SMBCLK, 15 ~{RESET}, 16 VBUS_DET, 17 SUSP_IND, 18 VDD33 (power), 19 USBDM_UP, 20 USBDP_UP, 21 XTALOUT, 22 XTALIN, 23 PLLFILT, 24 RBIAS, 25 GND

## USB-2.0-TYPE-C-3.0
designator K?, comment USB
Conn USB 3.0 Type C USB 2.0; Manufacturer Part Number: 0480370001
footprint USB-TYPE-C-3.0
pins: A1B12 GND, A4B9 VBUS (power), A5 CC1, A6 D+, A7 D-, A8 SBU1, B1A12 GND (power), B4A9 VBUS (power), B5 CC2, B6 D+, B7 D-, B8 SBU2, SHELL

## USB-3.0-TYPE-C-3.0
designator CON?, comment USB4055-XX-X_revA
Micro USB Receptacle, Type C, Hybrid Type, PCB Top Mount
footprint DX07S024JA2R1200 (Micro USB Receptacle, Type C, Hybrid Type, PCB Top Mount)
pins: A1 GND (power), A2 SSTXp1 (in), A3 SSTXn1 (in), A4 VBUS (power), A5 CC1 (power), A6 Dp1 (io), A7 Dn1 (io), A8 SBU1 (power), A9 VBUS (power), A10 SSRXn2 (out), A11 SSRXp2 (out), A12 GND (power), B1 GND (power), B2 SSTXp2 (in), B3 SSTXn2 (in), B4 VBUS (power), B5 CC2 (power), B6 Dp2 (io), B7 Dn2 (io), B8 SBU2 (power), B9 VBUS (power), B10 SSRXn1 (out), B11 SSRXp1 (out), B12 GND (power), S Shell (power), S Shell (power)

## USB-TYPE-A-3.0
designator K?, comment USB
Conn USB 3.0 Type A; Manufacturer Part Number: 0480370001
footprint USB-TYPE-A-3.0
pins: 1 SSTX+ (out), 2 +5V (power), 3 SSTX- (out), 4 D- (io), 5 GND, 6 D+ (io), 7 SSRX+ (in), 8 GND (power), 9 SSRX- (in), 10 SHIELD

## V10P20-M3_86A
designator D?
Schottky Diode; Manufacturer_Name: Vishay; Manufacturer_Part_Number: V10P20-M3/86A; Datasheet Link: https://componentsearchengine.com/Datasheets/1/V10P20-M3_86A.pdf; Height: 1.2mm; Mouser Part Number: 78-V10P20-M3/86A; Mouser Price/Stock: http://www.mouser.com/Search/ProductDetail.aspx?qs=ZB8tH5z5N7ZN%2fq6ksuxZBw%3d%3d
footprint V10P20M386A
pins: 1 A_1, 2 A_2, 3 K

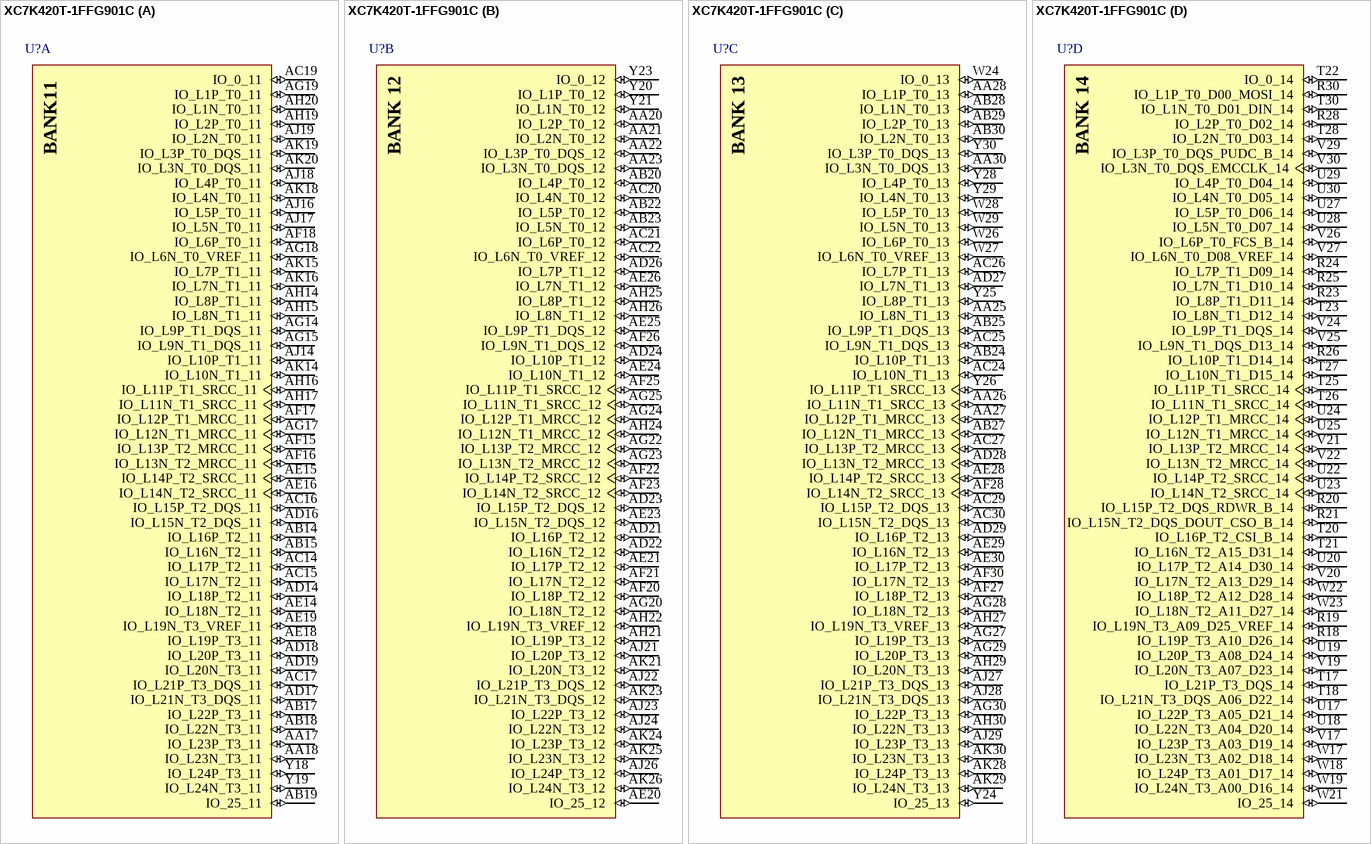
[diagram p4: symbol XC7K420T-1FFG901C]

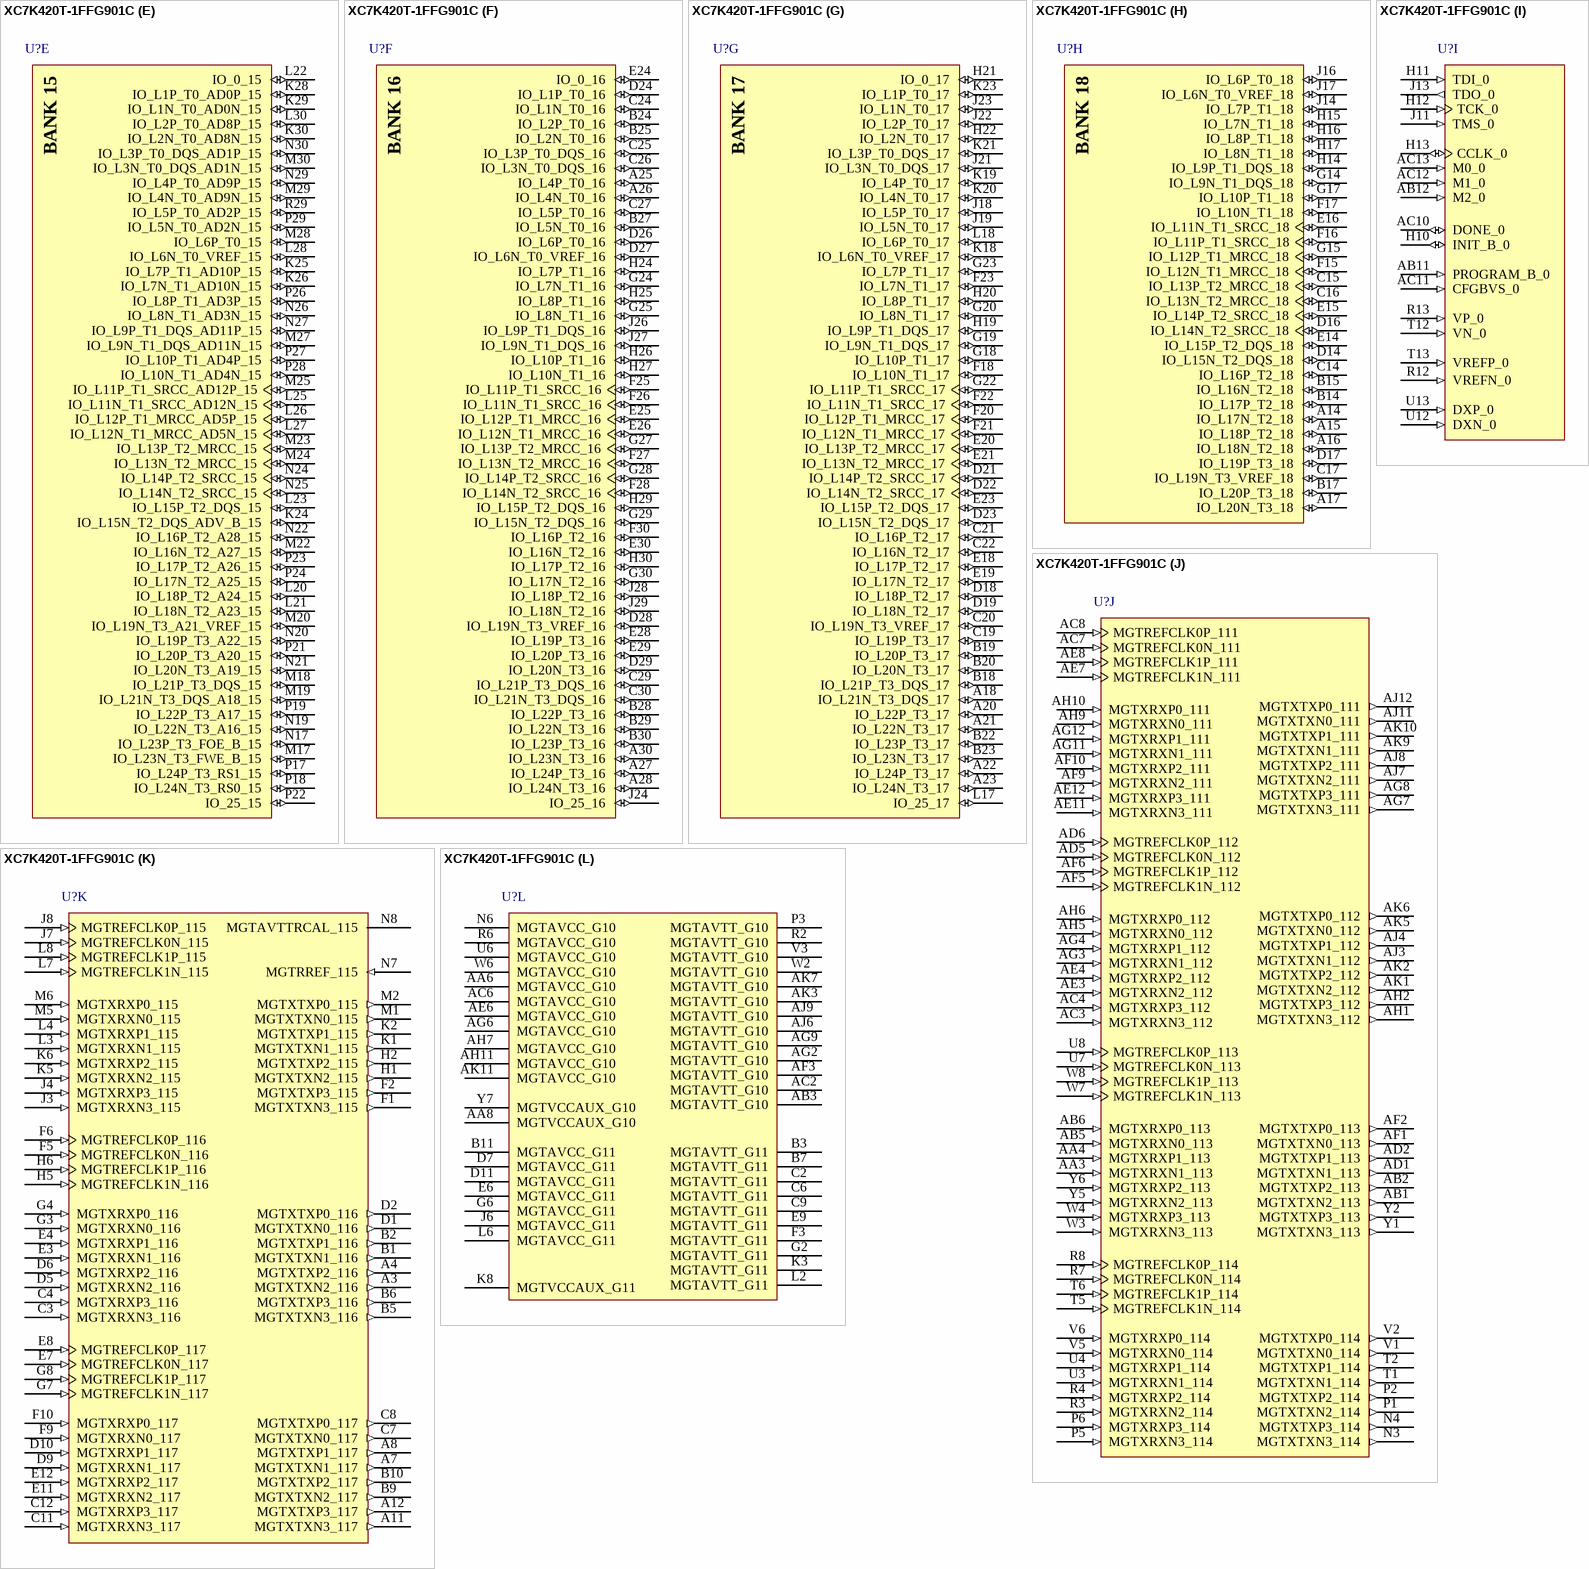
[diagram p5: symbol XC7K420T-1FFG901C]

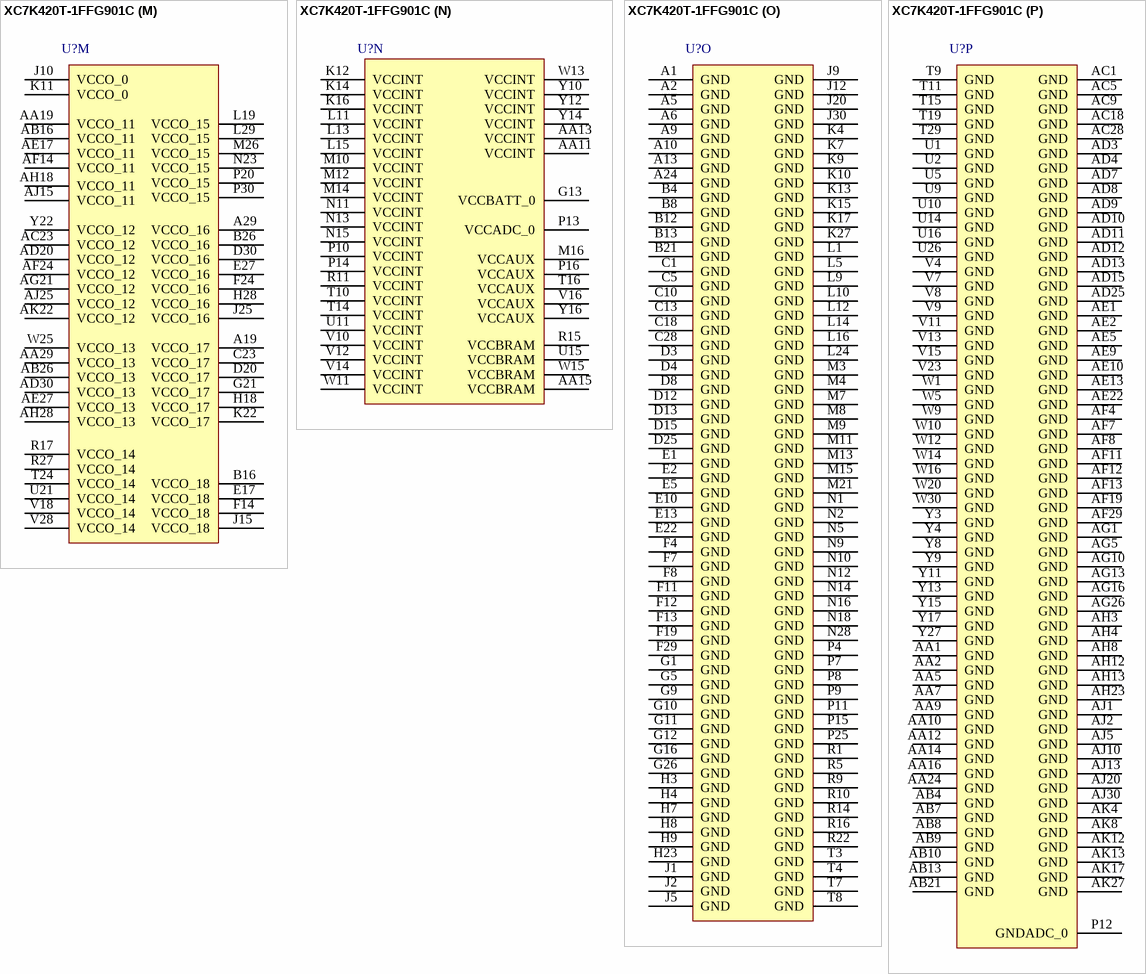
[diagram p6: symbol XC7K420T-1FFG901C]